# Altium schematic symbol library Altium AVR.SchLib: 11 symbols
Pins are listed as number, name and electrical type; pins without a type are passive.

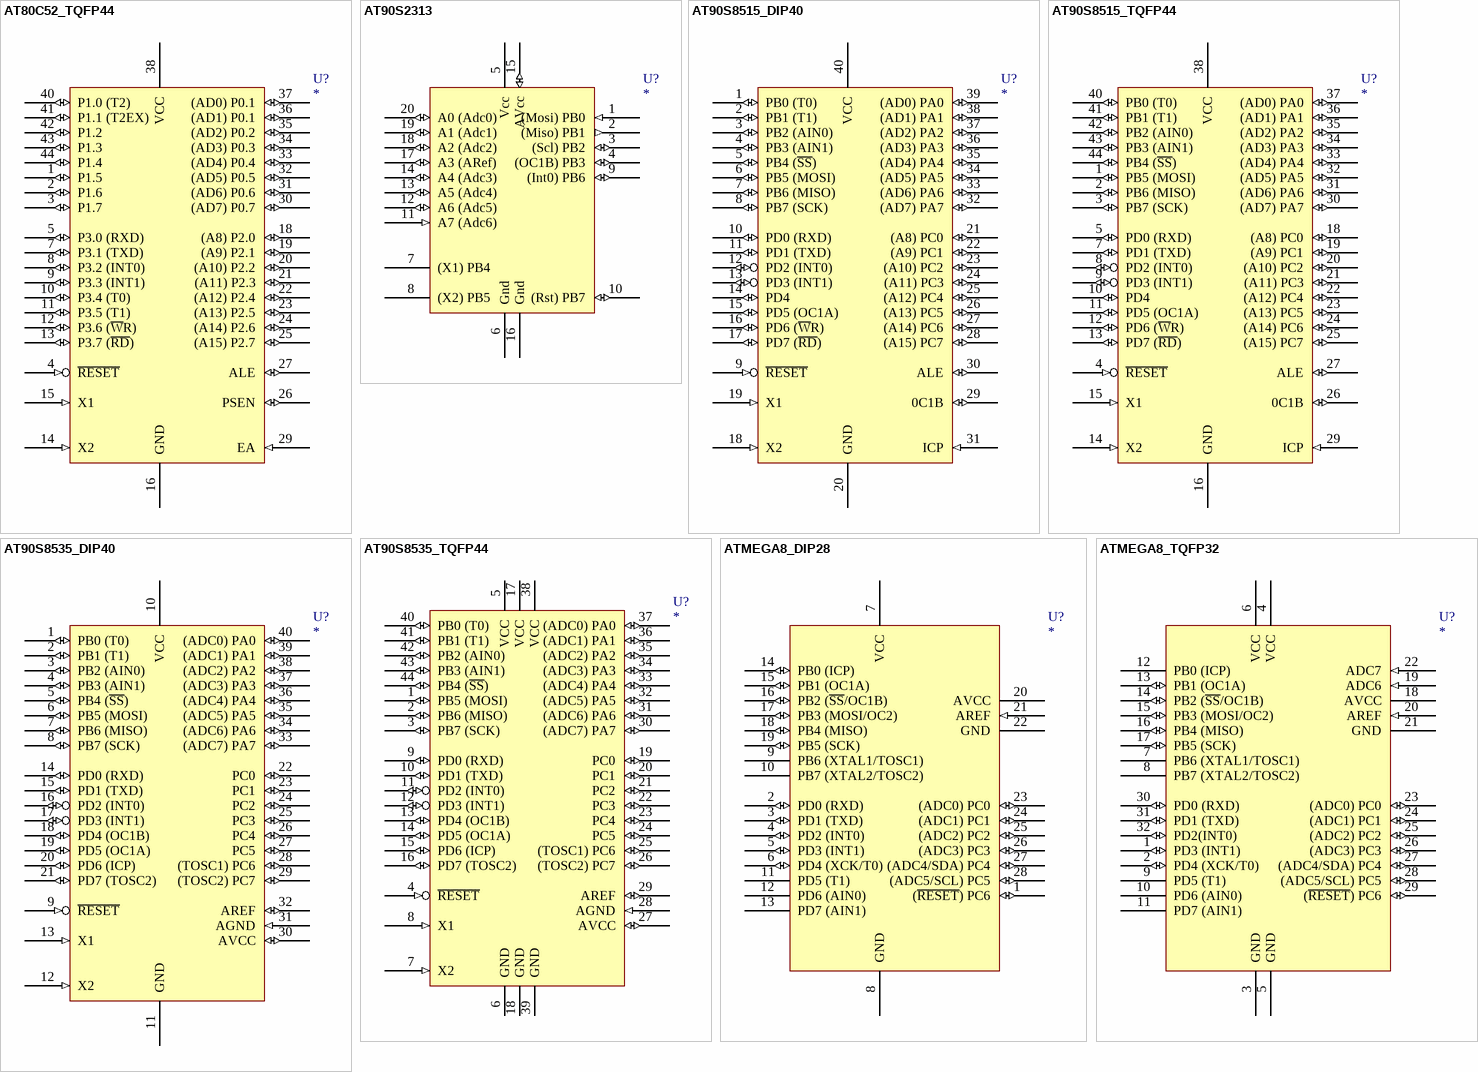
[diagram p0: symbols AT80C52_TQFP44 to ATMEGA8_TQFP32]

## AT80C52_TQFP44
designator U?
Atmel Microcontroller - Library created by carel..  <www.mpfreezone.com>
footprint TQFP-44
pins: 1 P1.5 (io), 2 P1.6 (io), 3 P1.7 (io), 4 ~{RESET} (in), 5 P3.0 (RXD) (io), 7 P3.1 (TXD) (io), 8 P3.2 (INT0) (io), 9 P3.3 (INT1) (io), 10 P3.4 (T0) (io), 11 P3.5 (T1) (io), 12 P3.6 (~{W}R) (io), 13 P3.7 (~{RD}) (io), 14 X2 (in), 15 X1 (in), 16 GND (power), 18 (A8) P2.0 (io), 19 (A9) P2.1 (io), 20 (A10) P2.2 (io), 21 (A11) P2.3 (io), 22 (A12) P2.4 (io), 23 (A13) P2.5 (io), 24 (A14) P2.6 (io), 25 (A15) P2.7 (io), 26 PSEN (io), 27 ALE (io), 29 EA (in), 30 (AD7) P0.7 (io), 31 (AD6) P0.6 (io), 32 (AD5) P0.5 (io), 33 (AD4) P0.4 (io), 34 (AD3) P0.3 (io), 35 (AD2) P0.2 (io), 36 (AD1) P0.1 (io), 37 (AD0) P0.1 (io), 38 VCC (power), 40 P1.0 (T2) (io), 41 P1.1 (T2EX) (io), 42 P1.2 (io), 43 P1.3 (io), 44 P1.4 (io)

## AT90S2313
designator U?
Atmel Microcontroller
footprint Dip 20
footprint Dip 20 SMD Wide
pins: 1 (Mosi) PB0 (in), 2 (Miso) PB1 (out), 3 (Scl) PB2 (io), 4 (OC1B) PB3 (io), 5 Vcc (power), 6 Gnd (power), 7 (X1) PB4, 8 (X2) PB5, 9 (Int0) PB6 (io), 10 (Rst) PB7 (io), 11 A7 (Adc6) (in), 12 A6 (Adc5) (io), 13 A5 (Adc4) (io), 14 A4 (Adc3) (io), 15 AVcc (io), 16 Gnd, 17 A3 (ARef) (io), 18 A2 (Adc2) (io), 19 A1 (Adc1) (io), 20 A0 (Adc0) (io)

## AT90S8515_DIP40
designator U?
Atmel Microcontroller - Library created by carel..  <www.mpfreezone.com>
footprint DIP-40
pins: 1 PB0 (T0) (io), 2 PB1 (T1) (io), 3 PB2 (AIN0) (io), 4 PB3 (AIN1) (io), 5 PB4 (~{SS}) (io), 6 PB5 (MOSI) (io), 7 PB6 (MISO) (io), 8 PB7 (SCK) (io), 9 ~{RESET} (in), 10 PD0 (RXD) (io), 11 PD1 (TXD) (io), 12 PD2 (INT0) (io), 13 PD3 (INT1) (io), 14 PD4 (io), 15 PD5 (OC1A) (io), 16 PD6 (~{W}R) (io), 17 PD7 (~{RD}) (io), 18 X2 (in), 19 X1 (in), 20 GND (power), 21 (A8) PC0 (io), 22 (A9) PC1 (io), 23 (A10) PC2 (io), 24 (A11) PC3 (io), 25 (A12) PC4 (io), 26 (A13) PC5 (io), 27 (A14) PC6 (io), 28 (A15) PC7 (io), 29 0C1B (io), 30 ALE (io), 31 ICP (in), 32 (AD7) PA7 (io), 33 (AD6) PA6 (io), 34 (AD5) PA5 (io), 35 (AD4) PA4 (io), 36 (AD3) PA3 (io), 37 (AD2) PA2 (io), 38 (AD1) PA1 (io), 39 (AD0) PA0 (io), 40 VCC (power)

## AT90S8515_TQFP44
designator U?
Atmel Microcontroller - Library created by carel..  <www.mpfreezone.com>
footprint TQFP-44
pins: 1 PB5 (MOSI) (io), 2 PB6 (MISO) (io), 3 PB7 (SCK) (io), 4 ~{RESET} (in), 5 PD0 (RXD) (io), 7 PD1 (TXD) (io), 8 PD2 (INT0) (io), 9 PD3 (INT1) (io), 10 PD4 (io), 11 PD5 (OC1A) (io), 12 PD6 (~{W}R) (io), 13 PD7 (~{RD}) (io), 14 X2 (in), 15 X1 (in), 16 GND (power), 18 (A8) PC0 (io), 19 (A9) PC1 (io), 20 (A10) PC2 (io), 21 (A11) PC3 (io), 22 (A12) PC4 (io), 23 (A13) PC5 (io), 24 (A14) PC6 (io), 25 (A15) PC7 (io), 26 0C1B (io), 27 ALE (io), 29 ICP (in), 30 (AD7) PA7 (io), 31 (AD6) PA6 (io), 32 (AD5) PA5 (io), 33 (AD4) PA4 (io), 34 (AD3) PA3 (io), 35 (AD2) PA2 (io), 36 (AD1) PA1 (io), 37 (AD0) PA0 (io), 38 VCC (power), 40 PB0 (T0) (io), 41 PB1 (T1) (io), 42 PB2 (AIN0) (io), 43 PB3 (AIN1) (io), 44 PB4 (~{SS}) (io)

## AT90S8535_DIP40
designator U?
Atmel Microcontroller - Library created by carel..  <www.mpfreezone.com>
footprint DIP-40
pins: 1 PB0 (T0) (io), 2 PB1 (T1) (io), 3 PB2 (AIN0) (io), 4 PB3 (AIN1) (io), 5 PB4 (~{SS}) (io), 6 PB5 (MOSI) (io), 7 PB6 (MISO) (io), 8 PB7 (SCK) (io), 9 ~{RESET} (in), 10 VCC (power), 11 GND (power), 12 X2 (in), 13 X1 (in), 14 PD0 (RXD) (io), 15 PD1 (TXD) (io), 16 PD2 (INT0) (io), 17 PD3 (INT1) (io), 18 PD4 (OC1B) (io), 19 PD5 (OC1A) (io), 20 PD6 (ICP) (io), 21 PD7 (TOSC2) (io), 22 PC0 (io), 23 PC1 (io), 24 PC2 (io), 25 PC3 (io), 26 PC4 (io), 27 PC5 (io), 28 (TOSC1) PC6 (io), 29 (TOSC2) PC7 (io), 30 AVCC (io), 31 AGND (in), 32 AREF (io), 33 (ADC7) PA7 (io), 34 (ADC6) PA6 (io), 35 (ADC5) PA5 (io), 36 (ADC4) PA4 (io), 37 (ADC3) PA3 (io), 38 (ADC2) PA2 (io), 39 (ADC1) PA1 (io), 40 (ADC0) PA0 (io)

## AT90S8535_TQFP44
designator U?
Atmel Microcontroller - Library created by carel..  <www.mpfreezone.com>
footprint TQFP-44
pins: 1 PB5 (MOSI) (io), 2 PB6 (MISO) (io), 3 PB7 (SCK) (io), 4 ~{RESET} (in), 5 VCC, 6 GND, 7 X2 (in), 8 X1 (in), 9 PD0 (RXD) (io), 10 PD1 (TXD) (io), 11 PD2 (INT0) (io), 12 PD3 (INT1) (io), 13 PD4 (OC1B) (io), 14 PD5 (OC1A) (io), 15 PD6 (ICP) (io), 16 PD7 (TOSC2) (io), 17 VCC, 18 GND, 19 PC0 (io), 20 PC1 (io), 21 PC2 (io), 22 PC3 (io), 23 PC4 (io), 24 PC5 (io), 25 (TOSC1) PC6 (io), 26 (TOSC2) PC7 (io), 27 AVCC (io), 28 AGND (in), 29 AREF (io), 30 (ADC7) PA7 (io), 31 (ADC6) PA6 (io), 32 (ADC5) PA5 (io), 33 (ADC4) PA4 (io), 34 (ADC3) PA3 (io), 35 (ADC2) PA2 (io), 36 (ADC1) PA1 (io), 37 (ADC0) PA0 (io), 38 VCC (power), 39 GND (power), 40 PB0 (T0) (io), 41 PB1 (T1) (io), 42 PB2 (AIN0) (io), 43 PB3 (AIN1) (io), 44 PB4 (~{SS}) (io)

## ATMEGA8_DIP28
designator U?
Mega8
footprint DIP 28
pins: 1 (~{RESET}) PC6 (io), 2 PD0 (RXD) (io), 3 PD1 (TXD) (io), 4 PD2 (INT0) (io), 5 PD3 (INT1) (io), 6 PD4 (XCK/T0) (io), 7 VCC, 8 GND, 9 PB6 (XTAL1/TOSC1), 10 PB7 (XTAL2/TOSC2), 11 PD5 (T1), 12 PD6 (AIN0), 13 PD7 (AIN1), 14 PB0 (ICP) (io), 15 PB1 (OC1A) (io), 16 PB2 (~{SS}/OC1B) (io), 17 PB3 (MOSI/OC2) (io), 18 PB4 (MISO) (io), 19 PB5 (SCK) (io), 20 AVCC, 21 AREF (in), 22 GND, 23 (ADC0) PC0 (io), 24 (ADC1) PC1 (io), 25 (ADC2) PC2 (io), 26 (ADC3) PC3 (io), 27 (ADC4/SDA) PC4 (io), 28 (ADC5/SCL) PC5 (io)

## ATMEGA8_TQFP32
designator U?
Atmel Microcontroller - Library created by carel..  <www.mpfreezone.com>
footprint TQFP 32
pins: 1 PD3 (INT1) (io), 2 PD4 (XCK/T0) (io), 3 GND, 4 VCC (power), 5 GND (power), 6 VCC, 7 PB6 (XTAL1/TOSC1), 8 PB7 (XTAL2/TOSC2), 9 PD5 (T1), 10 PD6 (AIN0), 11 PD7 (AIN1), 12 PB0 (ICP), 13 PB1 (OC1A) (io), 14 PB2 (~{SS}/OC1B) (io), 15 PB3 (MOSI/OC2) (io), 16 PB4 (MISO) (io), 17 PB5 (SCK) (io), 18 AVCC, 19 ADC6 (in), 20 AREF (in), 21 GND, 22 ADC7 (in), 23 (ADC0) PC0 (io), 24 (ADC1) PC1 (io), 25 (ADC2) PC2 (io), 26 (ADC3) PC3 (io), 27 (ADC4/SDA) PC4 (io), 28 (ADC5/SCL) PC5 (io), 29 (~{RESET}) PC6 (io), 30 PD0 (RXD) (io), 31 PD1 (TXD) (io), 32 PD2(INT0) (io)

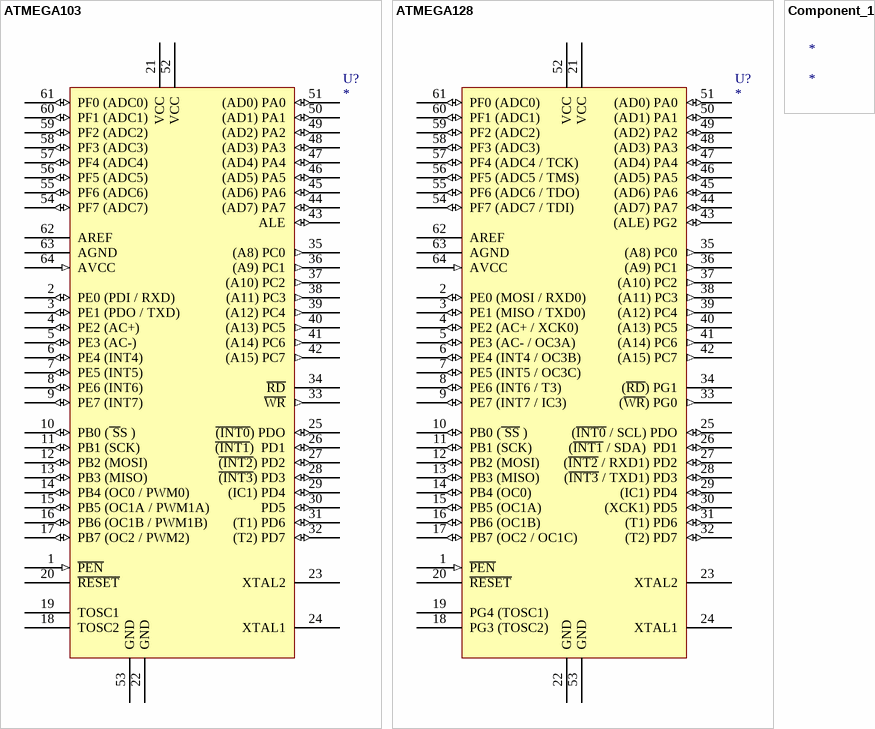
[diagram p1: symbols ATMEGA103 to Component_1]

## ATMEGA103
designator U?
Atmel Microcontroller - Library created by carel..  <www.mpfreezone.com>
footprint TQFP-64
pins: 1 ~{PEN} (in), 2 PE0 (PDI / RXD) (io), 3 PE1 (PDO / TXD)  (io), 4 PE2 (AC+) (io), 5 PE3 (AC-) (io), 6 PE4 (INT4) (io), 7 PE5 (INT5) (io), 8 PE6 (INT6) (io), 9 PE7 (INT7) (io), 10 PB0 (~{ S}S ) (io), 11 PB1 (SCK) (io), 12 PB2 (MOSI) (io), 13 PB3 (MISO) (io), 14 PB4 (OC0 / PWM0) (io), 15 PB5 (OC1A / PWM1A) (io), 16 PB6 (OC1B / PWM1B) (io), 17 PB7 (OC2 / PWM2) (io), 18 TOSC2, 19 TOSC1, 20 ~{RESET}, 21 VCC (power), 22 GND (power), 23 XTAL2, 24 XTAL1, 25 ~{(INT0}) PDO (io), 26 ~{(INT1})  PD1 (io), 27 ~{(INT2}) PD2 (io), 28 ~{(INT3}) PD3 (io), 29 (IC1) PD4 (io), 30 PD5 (io), 31 (T1) PD6 (io), 32 (T2) PD7 (io), 33 ~{WR} (out), 34 ~{RD}, 35 (A8) PC0 (out), 36 (A9) PC1 (out), 37 (A10) PC2 (out), 38 (A11) PC3 (out), 39 (A12) PC4 (out), 40 (A13) PC5 (out), 41 (A14) PC6 (out), 42 (A15) PC7 (out), 43 ALE (io), 44 (AD7) PA7 (io), 45 (AD6) PA6 (io), 46 (AD5) PA5 (io), 47 (AD4) PA4 (io), 48 (AD3) PA3 (io), 49 (AD2) PA2 (io), 50 (AD1) PA1 (io), 51 (AD0) PA0 (io), 52 VCC (power), 53 GND (power), 54 PF7 (ADC7) (io), 55 PF6 (ADC6) (io), 56 PF5 (ADC5) (io), 57 PF4 (ADC4) (io), 58 PF3 (ADC3) (io), 59 PF2 (ADC2) (io), 60 PF1 (ADC1) (io), 61 PF0 (ADC0) (io), 62 AREF, 63 AGND, 64 AVCC (in)

## ATMEGA128
designator U?
Atmel Microcontroller
footprint TQFP 64
pins: 1 ~{PEN} (in), 2 PE0 (MOSI / RXD0) (io), 3 PE1 (MISO / TXD0)  (io), 4 PE2 (AC+ / XCK0) (io), 5 PE3 (AC- / OC3A) (io), 6 PE4 (INT4 / OC3B) (io), 7 PE5 (INT5 / OC3C) (io), 8 PE6 (INT6 / T3) (io), 9 PE7 (INT7 / IC3) (io), 10 PB0 (~{ SS} ) (io), 11 PB1 (SCK) (io), 12 PB2 (MOSI) (io), 13 PB3 (MISO) (io), 14 PB4 (OC0) (io), 15 PB5 (OC1A) (io), 16 PB6 (OC1B) (io), 17 PB7 (OC2 / OC1C) (io), 18 PG3 (TOSC2), 19 PG4 (TOSC1), 20 ~{RESET}, 21 VCC (power), 22 GND (power), 23 XTAL2, 24 XTAL1, 25 (~{INT0} / SCL) PDO (io), 26 (~{INT1} / SDA)  PD1 (io), 27 (~{INT2} / RXD1) PD2 (io), 28 (~{INT3} / TXD1) PD3 (io), 29 (IC1) PD4 (io), 30 (XCK1) PD5 (io), 31 (T1) PD6 (io), 32 (T2) PD7 (io), 33 (~{WR}) PG0 (out), 34 (~{RD}) PG1, 35 (A8) PC0 (out), 36 (A9) PC1 (out), 37 (A10) PC2 (out), 38 (A11) PC3 (out), 39 (A12) PC4 (out), 40 (A13) PC5 (out), 41 (A14) PC6 (out), 42 (A15) PC7 (out), 43 (ALE) PG2 (io), 44 (AD7) PA7 (io), 45 (AD6) PA6 (io), 46 (AD5) PA5 (io), 47 (AD4) PA4 (io), 48 (AD3) PA3 (io), 49 (AD2) PA2 (io), 50 (AD1) PA1 (io), 51 (AD0) PA0 (io), 52 VCC (power), 53 GND (power), 54 PF7 (ADC7 / TDI) (io), 55 PF6 (ADC6 / TDO) (io), 56 PF5 (ADC5 / TMS) (io), 57 PF4 (ADC4 / TCK) (io), 58 PF3 (ADC3) (io), 59 PF2 (ADC2) (io), 60 PF1 (ADC1) (io), 61 PF0 (ADC0) (io), 62 AREF, 63 AGND, 64 AVCC (in)

## Component_1
designator *